# EAGLE library part CONN_1X08_SHX2 (library GPLIB_CONN)
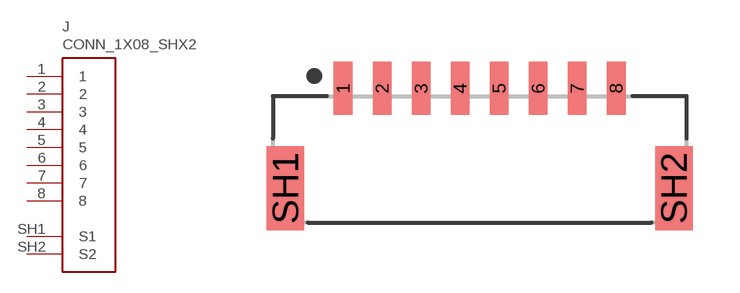
[diagram p49: symbol with the pads of CONN_1X08_1.25MM_SM_RA_SM08B-GHS-TB; footprint CONN_1X08_1.25MM_SM_RA_SM08B-GHS-TB]

Designator prefix J

## CONN_1X08_SHX2_1.25MM_SM_RA_SM08B-GHS-TB  [CONN_1X08_1.25MM_SM_RA_SM08B-GHS-TB]
1  1  pas
2  2  pas
3  3  pas
4  4  pas
5  5  pas
6  6  pas
7  7  pas
8  8  pas
SH1  S1  pas
SH2  S2  pas

## Footprint CONN_1X08_1.25MM_SM_RA_SM08B-GHS-TB (pad centres in mm)
smd 0.6 x 1.7: 1 -4.375,1.6; 2 -3.125,1.6; 3 -1.875,1.6; 4 -0.625,1.6; 5 0.625,1.6; 6 1.875,1.6; 7 3.125,1.6; 8 4.375,1.6
smd 1.2 x 2.7: SH1 -6.225,-1.6; SH2 6.225,-1.6